# EAGLE library part 1X8-JTAG (library JLB6_Connec)
Connecteur JTAG 8 points avec alim
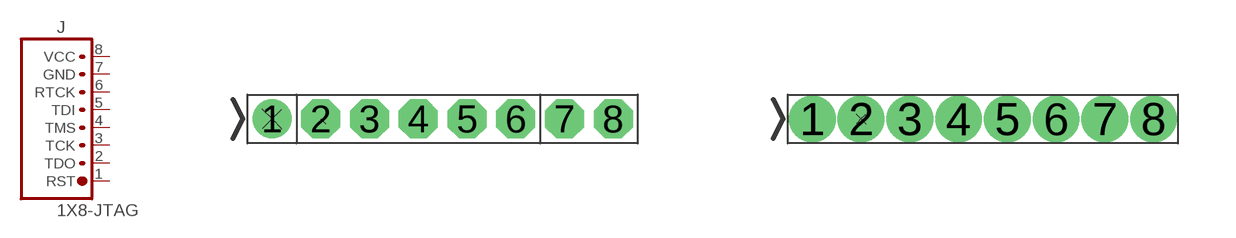
[diagram p50: symbol with the pads of 1X8-127OCT; footprints 1X8-127OCT, 1X8-127PROBE]

Designator prefix J

## 1X8-JTAGOCT  [1X8-127OCT]
1  RST  pas
2  TDO  pas
3  TCK  pas
4  TMS  pas
5  TDI  pas
6  RTCK  pas
7  GND  pas
8  VCC  pas

## 1X8-JTAGPROBE  [1X8-127PROBE]
Pads as for 1X8-127OCT

## Footprint 1X8-127OCT (pad centres in mm)
drill 0.508 pad 1.016: 1 -4.445,0
drill 0.508 pad 1.016 octagon: 2 -3.175,0; 3 -1.905,0; 4 -0.635,0; 5 0.635,0; 6 1.905,0; 7 3.175,0; 8 4.445,0

## Footprint 1X8-127PROBE (pad centres in mm)
drill 0.711 pad 1.079: 1 0,0; 2 1.27,0; 3 2.54,0; 4 3.81,0; 5 5.08,0; 6 6.35,0; 7 7.62,0; 8 8.89,0